# Altium schematic symbol library Power-3.96mm-1X2-M-R.Schlib: 1 symbol
Pins are listed as number, name and electrical type; pins without a type are passive.

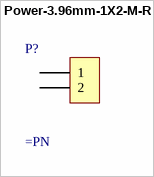
[diagram p0: symbol Power-3.96mm-1X2-M-R]

## Power-3.96mm-1X2-M-R
designator P?
3.96mm Pitch, 1X2 Right Male Power Connector
pins: 1, 2